# Altium footprint library PcbLib.PcbLib: 71 footprints (part 4 of 6)
Each footprint in its own frame and in the unit in brackets; x right, y up, seen from the top. Pads: shape width x height; smd on the part's side, far side on the other; paste and mask are expansions set on the pad; w line width, h text height; cw(c..) or ccw(c..) is an arc to the next point about the centre after c.
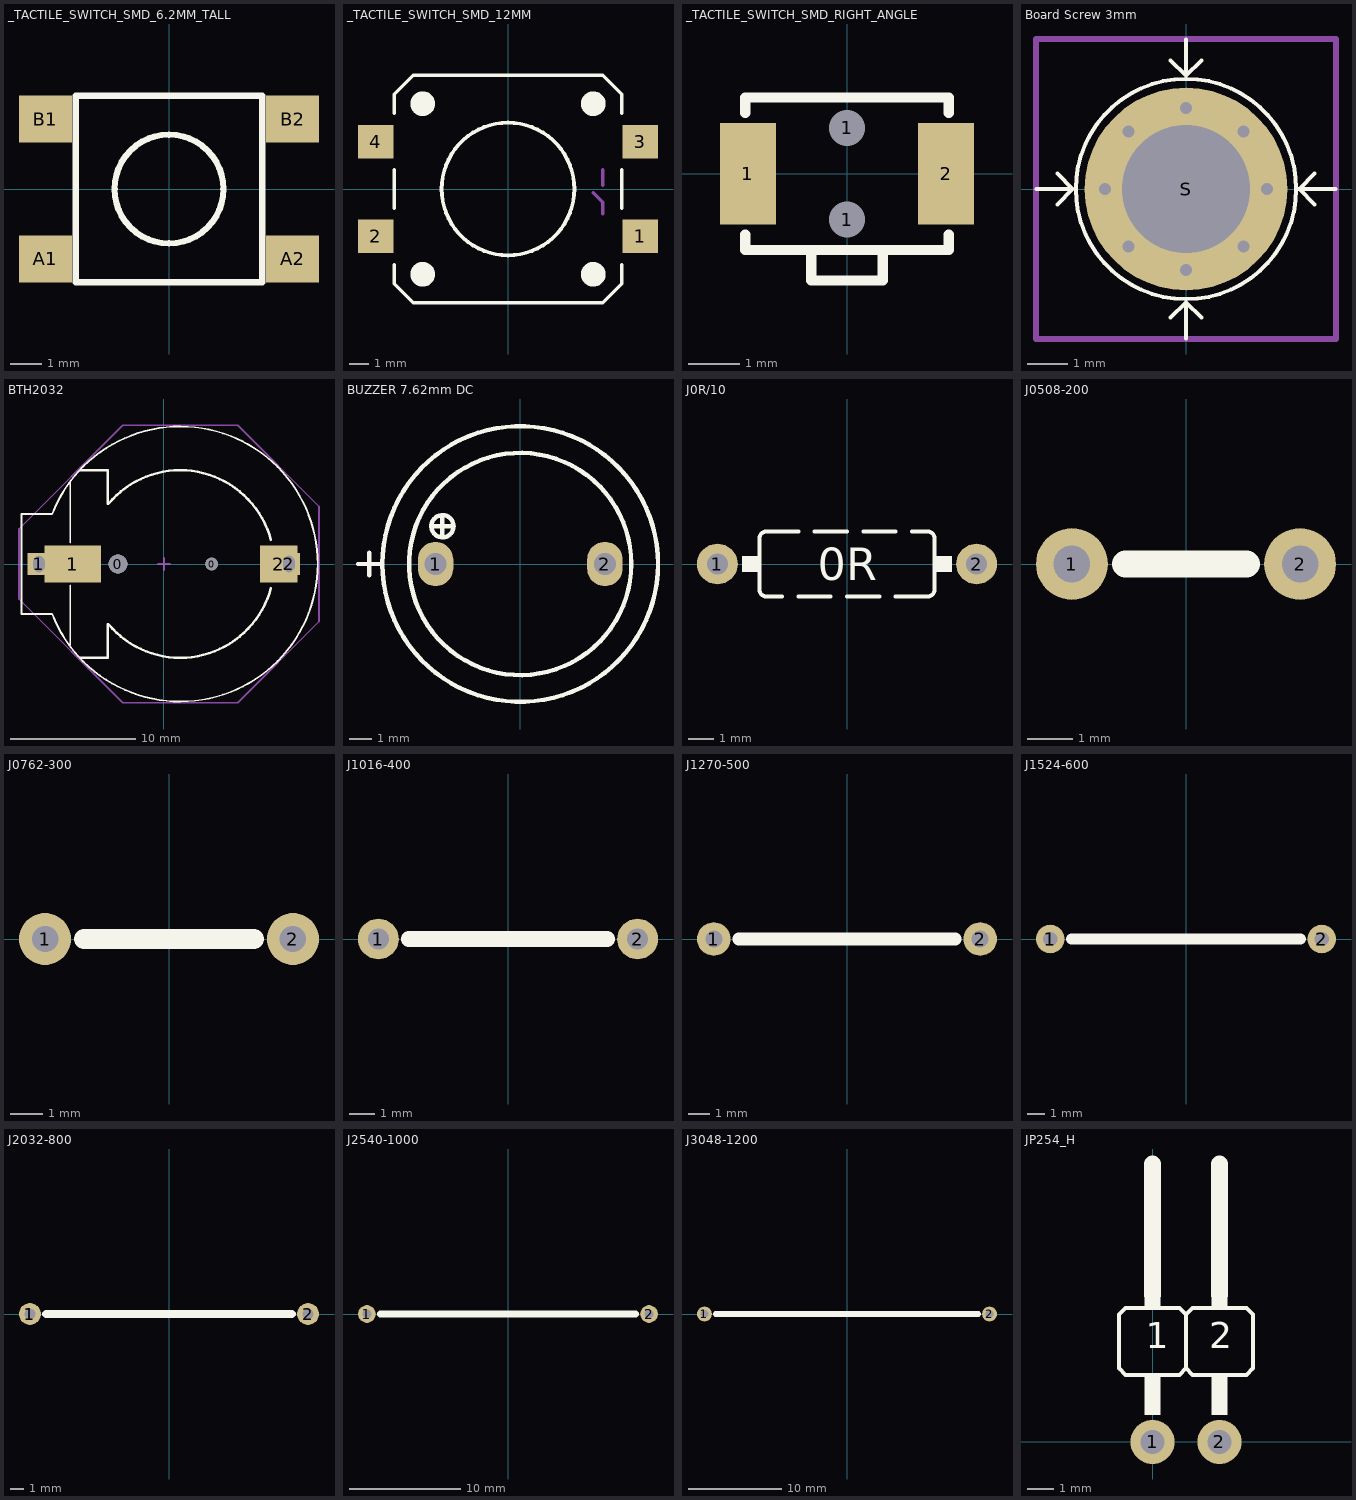
[diagram p3: the footprints below, top view; thin cyan lines are the x and y axes]

## _TACTILE_SWITCH_SMD_6.2MM_TALL [mm]
pads (4):
  rect 1.7x1.5 smd: A1(-3.975,-2.25) A2(3.975,-2.25) B1(-3.975,2.25) B2(3.975,2.25)
Top Overlay:
  circle w0.203: c0,0 r1.75
  lines w0.203: -3,-3 3,-3 3,3 -3,3 -3,-3

## _TACTILE_SWITCH_SMD_12MM [mm]
pads (4):
  rect 1.88x1.77 smd: 1(6.975,-2.5) 2(-6.975,-2.5) 3(6.975,2.5) 4(-6.975,2.5)
Top Overlay:
  circle w0.203: c0,0 r3.5
  circle w0.7: c-4.5,4.5 r0.3
  circle w0.7: c4.5,4.5 r0.3
  circle w0.7: c4.5,-4.5 r0.3
  circle w0.7: c-4.5,-4.5 r0.3
  lines w0.203: -6,-4 -6,-5 -5,-6 5,-6 6,-5 6,-4 ; -6,-1 -6,1 ; -6,4 -6,5 -5,6 5,6 6,5 6,4 ; 6,-1 6,1
Mechanical 16:
  lines w0.203: 4.5,-0.2 5,-0.7 5,-1.3 ; 5,0.2 5,1

## _TACTILE_SWITCH_SMD_RIGHT_ANGLE [mm]
pads (4):
  rect 1.1x2 smd: 1(-1.95,0) 2(1.95,0)
  round 0.7 hole 0.7: 1(0,-0.9) 1(0,0.9)
Top Overlay:
  lines w0.203: -2,-1.2 -2,-1.5 -0.7,-1.5 ; -2,1.2 -2,1.5 2,1.5 2,1.2 ; 2,-1.2 2,-1.5 0.7,-1.5 ; -0.7,-1.5 0.7,-1.5 ; -0.7,-1.5 -0.7,-2.1 0.7,-2.1 0.7,-1.5

## Board Screw 3mm [mm]
pads (1):
  round 5 hole 3.15 mask+0.1: S(0,0)
via -1.414,1.414 diameter 0.5 hole 0.3
via -2,0 diameter 0.5 hole 0.3
via -1.414,-1.414 diameter 0.5 hole 0.3
via 0,-2 diameter 0.5 hole 0.3
via 1.414,-1.414 diameter 0.5 hole 0.3
via 2,0 diameter 0.5 hole 0.3
via 1.414,1.414 diameter 0.5 hole 0.3
via 0,2 diameter 0.5 hole 0.3
Top Overlay:
  circle w0.1: c0,0 r2.718
  lines w0.1: -3.683,0 -2.794,0 ; -3.175,-0.381 -2.794,0 ; -3.175,0.381 -2.794,0 ; -0.381,-3.175 0,-2.794 ; -0.381,3.175 0,2.794 ; 0,-3.683 0,-2.794 ; 0,3.683 0,2.794 ; 0.381,-3.175 0,-2.794 ; 0.381,3.175 0,2.794 ; 2.718,0 3.683,0 ; 3.175,-0.381 2.794,0 3.175,0.381
Mechanical 15:
  lines w0.15: -3.7,-3.7 3.7,-3.7 3.7,3.7 -3.7,3.7 -3.7,-3.7

## BTH2032 [mm] "COIN CELL BATTERY HOLDER 1220 12mm CR2032"
height 2
pads (6):
  round 1.5 hole 1.5 unplated: 0(-3.683,0)
  round 1 hole 1 unplated: 0(3.81,0)
  rect 1.8x1.8 hole 0.9 slot 1.3 at 90 deg: 1(-10,0) 2(10,0)
  rect 4.5x3 smd: 1(-7.3,0)
  rect 3x3 smd: 2(9.2,0)
Top Overlay:
  lines w0.15: -8.962,4 -11.4,4 -11.4,-4 -8.954,-4 ; -8.948,-3.998 ccw(c1.3,0) -8.949,3.995 ; -7.5,-6.5 -7.5,-1.7 ; -7.5,1.7 -7.5,6.6
  lines w0.2: -6.7,-7.5 -4.5,-7.5 -4.5,-4.821 ; -6.7,7.5 -4.5,7.5 -4.5,4.821 ; -4.445,-4.821 ccw(c1.3,0) 8.544,-1.941 ; -4.445,4.821 cw(c1.3,0) 8.544,1.941
Mechanical 15:
  lines w0.15: -0.5,0 0.5,0 ; 0,-0.5 0,0.5 ; -11.6,-2.8 -11.6,2.8 -3.3,11.1 5.9,11.1 12.4,4.6 12.4,-4.6 5.9,-11.1 -3.3,-11.1 -11.6,-2.8
3D body "1220.STEP": height 4.35, standoff -0.9, extent -9,-7.375 10.201,7.374

## BUZZER 7.62mm DC [mm] "BUZZER 12mm DIA , 7.62mm pitch DESIGNER ABBAS BASEREH"
height 7.62
pads (2):
  oval 1.6x2 hole 1: 1(-3.81,0) 2(3.81,0)
Top Overlay:
  circle w0.2: c0,0 r5
  circle w0.2: c-3.5,1.7 r0.5
  circle w0.2: c0,0 r6.2
  lines w0.2: -7.3,0 -6.3,0 ; -6.8,-0.5 -6.8,0.5 ; -4,1.7 -3,1.7 ; -3.5,1.2 -3.5,2.2
3D body "User Library-Buzzer CEM-1205C.step": height 9.5, standoff -3.5, extent -6,-5.997 6,5.997

## J0R/10 [mil] "0 Ohm Jumper Resistor"
pads (2):
  round 63 hole 32: 1(-200,0) 2(200,0)
Top Overlay:
  rectangle: -162,-12 -135,12
  rectangle: 135,-12 162,12
  lines w6: -100,-50 -125,-50 cw(c-125,-40) -135,-40 -135,40 cw(c-125,40) -125,50 -75,50 ; -75,-50 -25,-50 ; -50,50 0,50 ; 0,-50 50,-50 ; 25,50 75,50 ; 75,-50 125,-50 ccw(c125,-40) 135,-40 135,40 ccw(c125,40) 125,50 100,50
  text "0R" at -45,-25 h50
3D body "SW3dPS-AXIAL_RESISTOR(0.25W).STEP": height 102.36, standoff -59.06, extent -215.74,-47.24 215.75,47.25

## J0508-200 [mil] "5.08 mm (200mil) Jumper wire"
pads (2):
  round 63 hole 32: 1(-100,0) 2(100,0)
Top Overlay:
  lines w24: -53,0 53,0
3D body: height 19.68, standoff -78.74, extent 86.33,-13.75 113.78,13.75
3D body: height 19.68, standoff -78.74, extent -113.67,-13.75 -86.22,13.75
3D body: height 33.44, standoff 5.93, extent -100,-13.67 100,13.78
3D body: height 33.46, standoff 5.91, extent 86.36,-13.72 113.78,13.72
3D body: height 33.46, standoff 5.91, extent -113.64,-13.72 -86.22,13.72

## J0762-300 [mil] "7.62 mm (300 mil) Jumper wire"
pads (2):
  round 63 hole 32: 1(-150,0) 2(150,0)
Top Overlay:
  lines w24: -103,0 103,0
3D body: height 19.68, standoff -78.74, extent 136.33,-13.81 163.78,13.7
3D body: height 19.68, standoff -78.74, extent -163.67,-13.75 -136.22,13.75
3D body: height 33.44, standoff 5.93, extent -150,-13.67 150,13.78
3D body: height 33.46, standoff 5.91, extent 136.36,-13.78 163.78,13.67
3D body: height 33.46, standoff 5.91, extent -163.64,-13.72 -136.22,13.72

## J1016-400 [mil] "10.16 mm (400 mil) Jumper wire"
pads (2):
  round 63 hole 32: 1(-200,0) 2(200,0)
Top Overlay:
  lines w24: -153,0 153,0
3D body: height 19.68, standoff -78.74, extent 186.33,-13.75 213.78,13.75
3D body: height 19.68, standoff -78.74, extent -213.67,-13.75 -186.22,13.75
3D body: height 33.44, standoff 5.93, extent -200,-13.67 200,13.78
3D body: height 33.46, standoff 5.91, extent 186.36,-13.72 213.78,13.72
3D body: height 33.46, standoff 5.91, extent -213.64,-13.72 -186.22,13.72

## J1270-500 [mil] "12.7 mm (500 mil) Jumper wire"
pads (2):
  round 63 hole 32: 1(-250,0) 2(250,0)
Top Overlay:
  lines w24: -203,0 203,0
3D body: height 19.68, standoff -78.74, extent 236.33,-13.75 263.78,13.75
3D body: height 19.68, standoff -78.74, extent -263.67,-13.75 -236.22,13.75
3D body: height 33.44, standoff 5.93, extent -250,-13.67 250,13.78
3D body: height 33.46, standoff 5.91, extent 236.36,-13.72 263.78,13.72
3D body: height 33.46, standoff 5.91, extent -263.64,-13.72 -236.22,13.72

## J1524-600 [mil] "15.24 mm (600 mil) Jumper wire"
pads (2):
  round 63 hole 32: 1(-300,0) 2(300,0)
Top Overlay:
  lines w24: -253,0 253,0
3D body: height 19.68, standoff -78.74, extent 286.33,-13.75 313.78,13.75
3D body: height 19.68, standoff -78.74, extent -313.67,-13.75 -286.22,13.75
3D body: height 33.44, standoff 5.93, extent -300,-13.67 300,13.78
3D body: height 33.46, standoff 5.91, extent 286.36,-13.72 313.78,13.72
3D body: height 33.46, standoff 5.91, extent -313.64,-13.72 -286.22,13.72

## J2032-800 [mil] "20.32 mm (800 mil) Jumper wire"
pads (2):
  round 63 hole 32: 1(-400,0) 2(400,0)
Top Overlay:
  lines w24: -353,0 353,0
3D body: height 19.68, standoff -78.74, extent 386.33,-13.75 413.78,13.75
3D body: height 19.68, standoff -78.74, extent -413.67,-13.75 -386.22,13.75
3D body: height 33.44, standoff 5.93, extent -400,-13.67 400,13.78
3D body: height 33.46, standoff 5.91, extent 386.36,-13.72 413.78,13.72
3D body: height 33.46, standoff 5.91, extent -413.64,-13.72 -386.22,13.72

## J2540-1000 [mil] "25.4 mm (1000 mil) Jumper wire"
pads (2):
  round 63 hole 32: 1(-500,0) 2(500,0)
Top Overlay:
  lines w24: -453,0 453,0
3D body: height 19.68, standoff -78.74, extent 486.33,-13.86 513.78,13.64
3D body: height 19.68, standoff -78.74, extent -513.67,-13.75 -486.22,13.75
3D body: height 33.44, standoff 5.93, extent -500,-13.67 500,13.78
3D body: height 33.46, standoff 5.91, extent 486.36,-13.83 513.78,13.61
3D body: height 33.46, standoff 5.91, extent -513.64,-13.72 -486.22,13.72

## J3048-1200 [mil] "30.48 mm (1200 mil) Jumper wire"
pads (2):
  round 63 hole 32: 1(-600,0) 2(600,0)
Top Overlay:
  lines w24: -553,0 553,0
3D body: height 19.68, standoff -78.74, extent 586.33,-13.86 613.78,13.64
3D body: height 19.68, standoff -78.74, extent -613.67,-13.75 -586.22,13.75
3D body: height 33.44, standoff 5.93, extent -600,-13.67 600,13.78
3D body: height 33.46, standoff 5.91, extent 586.36,-13.83 613.78,13.61
3D body: height 33.46, standoff 5.91, extent -613.64,-13.72 -586.22,13.72

## JP254_H [mil] "Jumper Header 2.54mm Pitch, Horizontal"
pads (2):
  round 66 hole 36: 1(0,0) 2(100,0)
Top Overlay:
  rectangle: -12,40 12,100
  rectangle: 88,40 112,100
  rectangle: 88,200 112,220
  rectangle: -12,200 12,220
  lines w6: 50,110 50,190 ; 50,110 60,100 140,100 150,110 150,190 140,200 60,200 50,190 ; 50,110 40,100 -40,100 -50,110 -50,190 -40,200 40,200 50,190
  lines w26: 0,220 0,415 ; 100,220 100,415
  text "1" at -10,140 h39
  text "2" at 85,140 h39
3D body "pin_header_aw140-ea-g02g.stp": height 100.39, standoff -92.52, extent -46.06,-12.96 146.06,425.62